# Altium footprint library Optoelectronics_Footprints.PcbLib: 3 footprints
Each footprint in its own frame and in the unit in brackets; x right, y up, seen from the top. Pads: shape width x height; smd on the part's side, far side on the other; paste and mask are expansions set on the pad; w line width, h text height; cw(c..) or ccw(c..) is an arc to the next point about the centre after c.
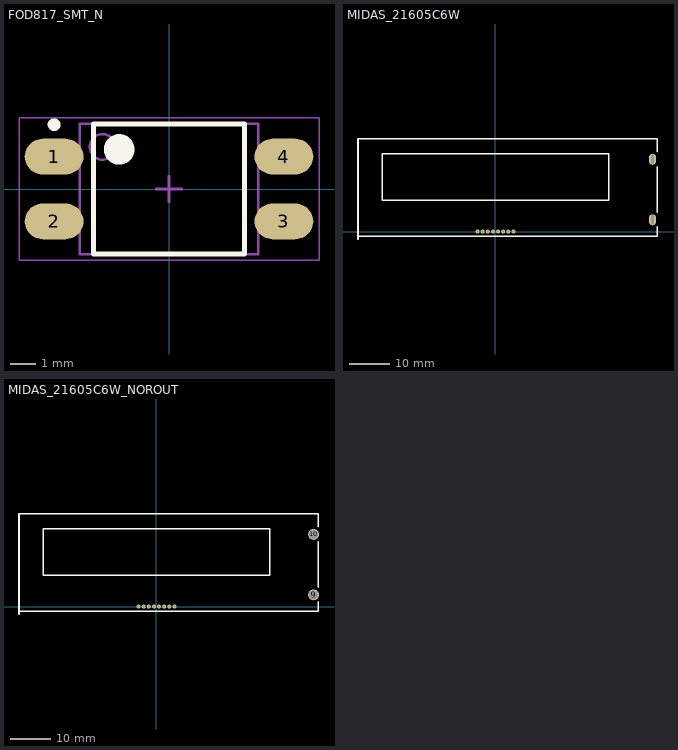
[diagram p0: the footprints below, top view; thin cyan lines are the x and y axes]

## FOD817_SMT_N [mm] "SOP, 4-Leads, Body 4.60x6.50mm, Pitch 2.54mm, IPC Medium Density"
height 4
pads (4):
  oval 2.3x1.4 smd: 1(-4.5,1.27) 2(-4.5,-1.27) 3(4.5,-1.27) 4(4.5,1.27)
Top Overlay:
  circle w0.6: c-1.95,1.55 r0.3
  circle w0.25: c-4.5,2.52 r0.125
  lines w0.2: -2.95,-2.55 2.95,-2.55 2.95,2.55 -2.95,2.55 -2.95,-2.55
Mechanical 13:
  circle w0.1: c-2.6,1.65 r0.5
  lines w0.1: -3.5,-2.55 3.5,-2.55 3.5,2.55 -3.5,2.55 -3.5,-2.55
Mechanical 15:
  lines w0.05: -5.875,-2.8 5.875,-2.8 5.875,2.8 -5.875,2.8 -5.875,-2.8
  lines w0.1: -0.5,0 0.5,0 ; 0,-0.5 0,0.5
3D body: height 4, standoff 0.26, extent -3.5,-2.55 3.5,2.55

## MIDAS_21605C6W [mm] "Layout for Midas LCD"
pads (10):
  round 1 hole 0.5: 1(-4.445,0) 2(-3.175,0) 3(-1.905,0) 4(-0.635,0) 5(0.635,0) 6(1.905,0) 7(3.175,0) 8(4.445,0)
  oval 1.8x2.7 hole 0.7 slot 2.22 at 90 deg: 9(38.95,2.9) 10(38.95,17.9)
Top Overlay:
  lines w0.381: -34.1,-1.905 -34.1,23 40.1,23 40.1,19.844 ; -34.1,-1.2 40.1,-1.2 40.1,1.238 ; 40.132,4.826 40.132,16.002 ; -28.1,7.8 -28.1,19.3 28.1,19.3 28.1,7.8 -28.1,7.8

## MIDAS_21605C6W_NOROUT [mm] "Layout for Midas LCD"
pads (10):
  round 1 hole 0.5: 1(-4.445,0) 2(-3.175,0) 3(-1.905,0) 4(-0.635,0) 5(0.635,0) 6(1.905,0) 7(3.175,0) 8(4.445,0)
  round 2.7 hole 2.2: 9(38.95,2.9) 10(38.95,17.9)
Top Overlay:
  lines w0.381: -34.1,-1.905 -34.1,23 40.1,23 40.1,19.844 ; -34.1,-1.2 40.1,-1.2 40.1,1.238 ; 40.132,4.826 40.132,16.002 ; -28.1,7.8 28.1,7.8 28.1,19.3 -28.1,19.3 -28.1,7.8